# Altium footprint library TACTILE SWITCH 2.PcbLib: 1 footprints
Each footprint in its own frame and in the unit in brackets; x right, y up, seen from the top. Pads: shape width x height; smd on the part's side, far side on the other; paste and mask are expansions set on the pad; w line width, h text height; cw(c..) or ccw(c..) is an arc to the next point about the centre after c.
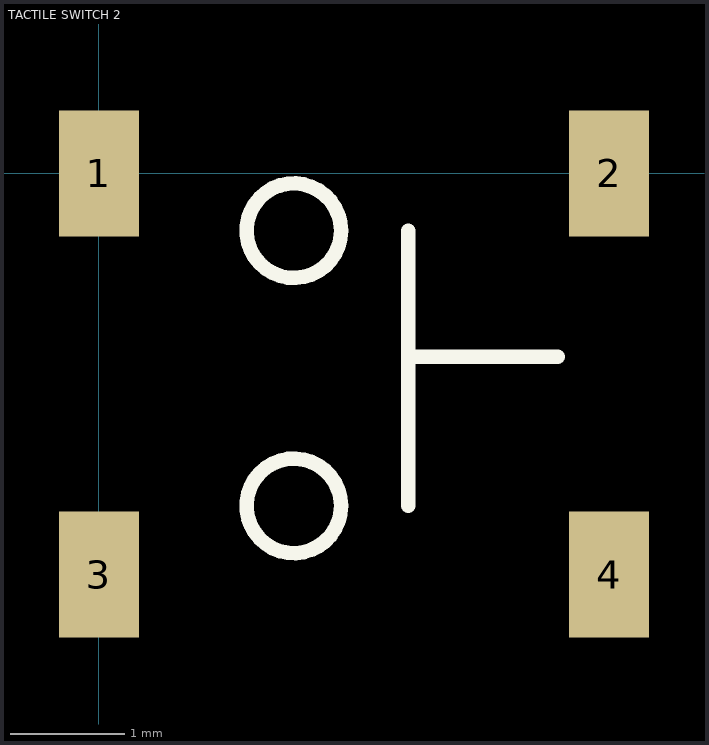
[diagram p0: the footprint, top view; thin cyan lines are the x and y axes]

## TACTILE SWITCH 2 [mm]
pads (4):
  rect 0.7x1.1 smd: 1(0,0) 2(4.45,0) 3(0,-3.5) 4(4.45,-3.5)
Top Overlay:
  circle w0.127: c1.7,-0.5 r0.412
  circle w0.127: c1.7,-2.9 r0.412
  lines w0.127: 2.7,-2.9 2.7,-1.7 2.7,-0.5 ; 2.7,-1.6 4,-1.6